# Altium footprint library Dodatkowe.PcbLib: 1 footprints
Each footprint in its own frame and in the unit in brackets; x right, y up, seen from the top. Pads: shape width x height; smd on the part's side, far side on the other; paste and mask are expansions set on the pad; w line width, h text height; cw(c..) or ccw(c..) is an arc to the next point about the centre after c.
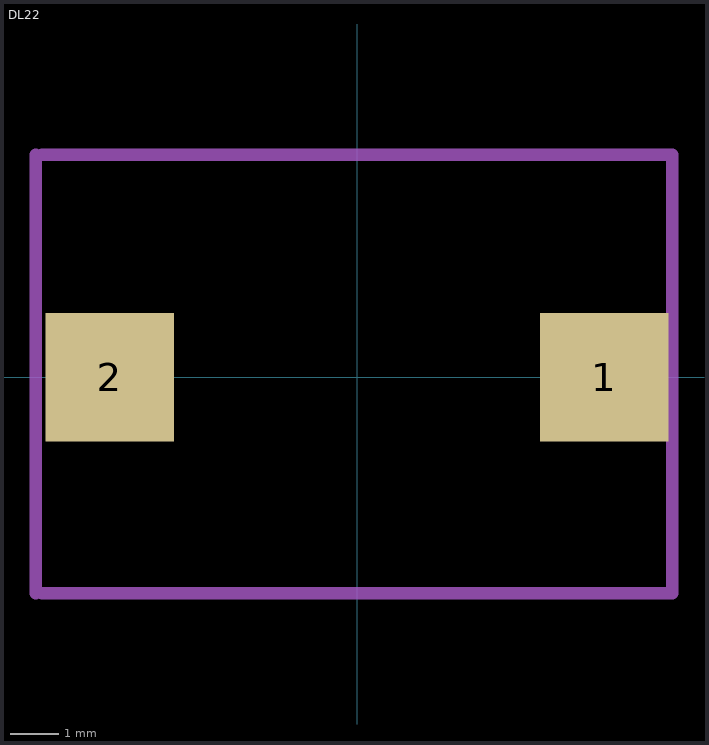
[diagram p0: the footprint, top view; thin cyan lines are the x and y axes]

## DL22 [mm]
pads (2):
  rect 2.64x2.64 smd: 1(5.08,0) 2(-5.08,0)
Mechanical 11:
  lines w0.254: -6.604,-4.445 -6.604,0 -6.604,4.572 ; -6.477,-4.445 0,-4.445 6.477,-4.445 6.477,0 6.477,4.572 0,4.572 -6.477,4.572